# Altium footprint library PcbLib.PcbLib: 35 footprints (part 3 of 3)
Each footprint in its own frame and in the unit in brackets; x right, y up, seen from the top. Pads: shape width x height; smd on the part's side, far side on the other; paste and mask are expansions set on the pad; w line width, h text height; cw(c..) or ccw(c..) is an arc to the next point about the centre after c.
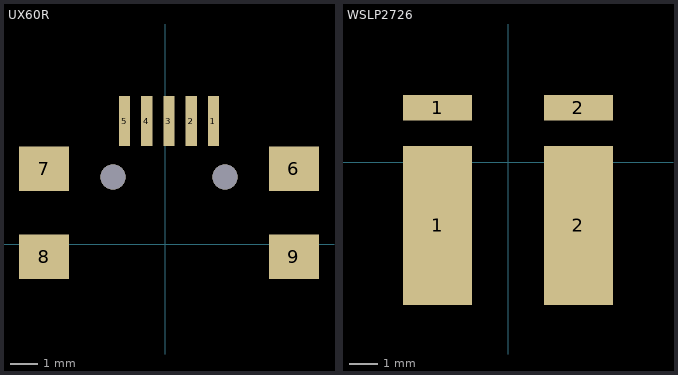
[diagram p2: the footprints below, top view; thin cyan lines are the x and y axes]

## TSSOP56 [mm] "TSSOP56"

## UX60R [mm] "UX60R"
pads (9):
  rect 0.4x1.8 smd: 1(1.727,4.421) 2(0.927,4.421) 3(0.127,4.421) 4(-0.673,4.421) 5(-1.473,4.421)
  rect 1.8x1.6 smd: 6(4.627,2.706) 7(-4.373,2.706) 8(-4.373,-0.459) 9(4.627,-0.459)
via 2.149,2.421 diameter 0.9 hole 0.9
via -1.895,2.421 diameter 0.9 hole 0.9
3D body "UX60R-MB-5ST-STEP.stp": height 4.45, standoff -0.6, extent -5.123,-4.106 5.377,4.294

## WSLP2726 [mm] "WSLP2726"
pads (4):
  rect 2.44x5.6 smd: 1(-2.48,-2.222) 2(2.48,-2.222)
  rect 2.44x0.89 smd: 1(-2.48,1.913) 2(2.48,1.913)
3D body "User Library-wsl2726.STEP": height 3.58, standoff 0, extent -3.471,-4.443 3.429,2.157